# Altium footprint library PSU.PcbLib: 11 footprints
Each footprint in its own frame and in the unit in brackets; x right, y up, seen from the top. Pads: shape width x height; smd on the part's side, far side on the other; paste and mask are expansions set on the pad; w line width, h text height; cw(c..) or ccw(c..) is an arc to the next point about the centre after c.
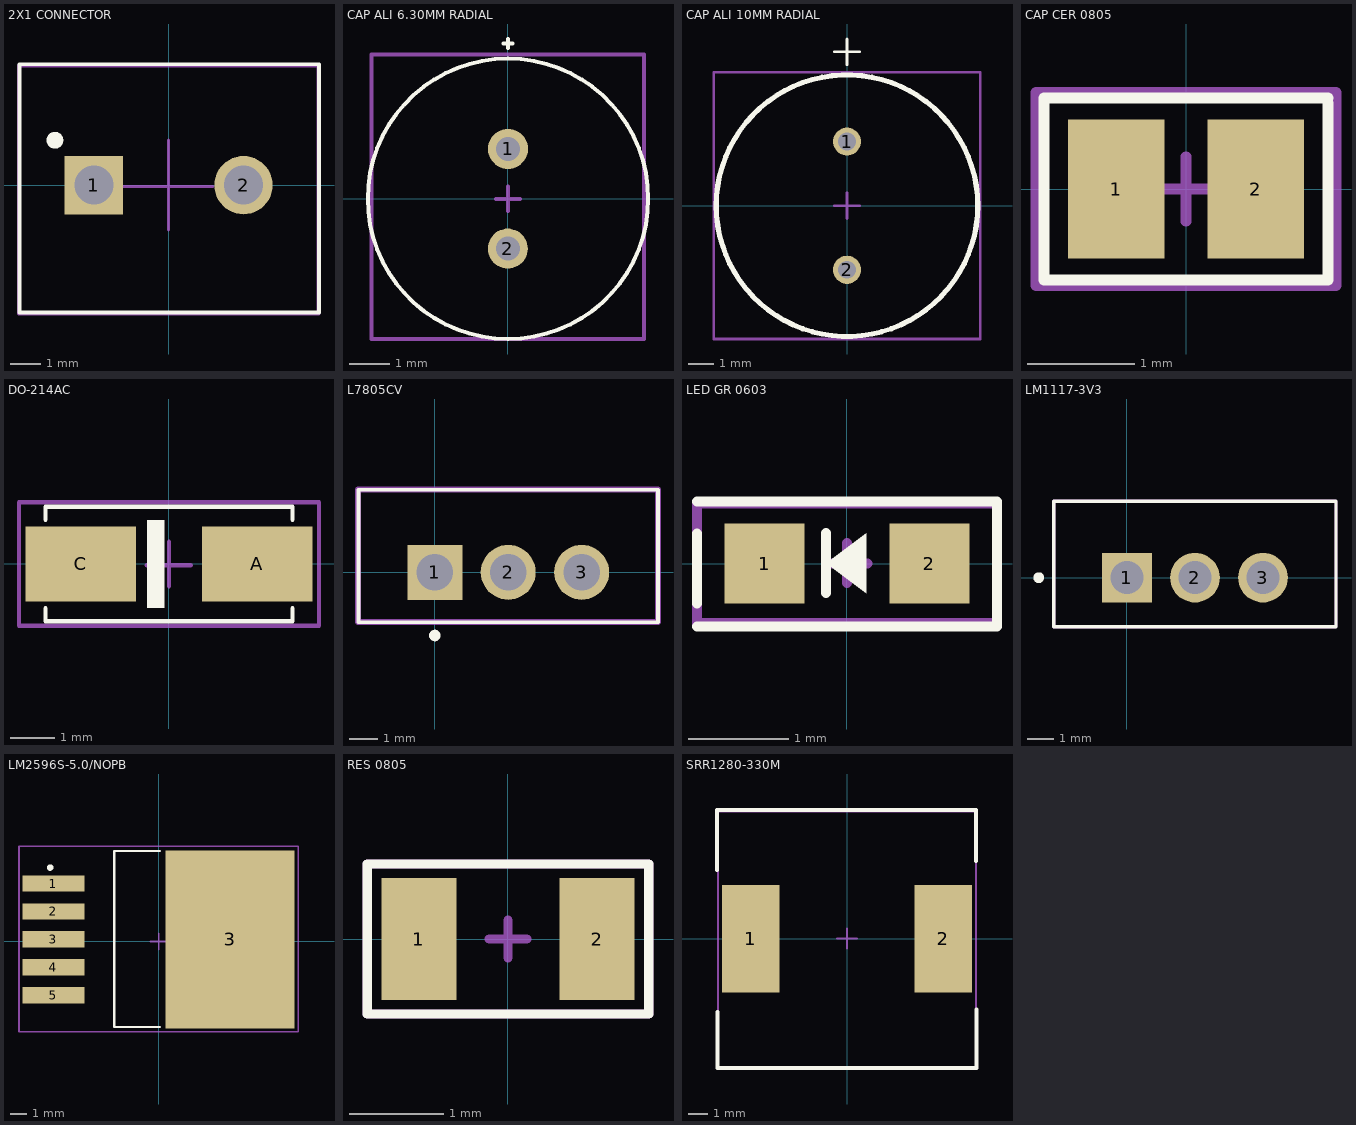
[diagram p0: the footprints below, top view; thin cyan lines are the x and y axes]

## 2X1 CONNECTOR [mm]
pads (2):
  rect 1.95x1.95 hole 1.3: 1(-2.5,0)
  round 1.95 hole 1.3: 2(2.5,0)
Top Overlay:
  circle w0.28: c-3.8,1.5 r0.14
  lines w0.127: -4.979,-4.261 5.021,-4.261 5.021,4.039 -4.979,4.039 -4.979,-4.261
Top Component Center:
  lines w0.1: -1.521,-0.039 1.479,-0.039 ; 0,-1.5 0,1.5
  lines w0.127: -5,-4.3 5,-4.3 5,4 -5,4 -5,-4.3
Top Designator:
  lines w0.127: -5,-4.3 5,-4.3 5,4 -5,4 -5,-4.3
  text ".Designator" at -4,-1 h0.9
3D body "1935161--3DModel-STEP-56544.STEP": height 11.91, standoff -2.99, extent -4.9,-5 5.5,4

## CAP ALI 6.30MM RADIAL [mm]
pads (2):
  round 1 hole 0.6 paste+0 mask+0.05: 1(0.002,1.244) 2(-0.002,-1.244)
Top Overlay:
  circle w0.1: c0.002,0 r3.5
  lines w0.1: -0.113,3.875 0.112,3.875 ; 0,3.762 0,3.988
Top Component Center:
  lines w0.1: -0.295,-0.011 0.305,-0.011 ; 0,-0.3 0,0.3 ; -3.4,-3.5 3.4,-3.5 3.4,3.6 -3.4,3.6 -3.4,-3.5
Top Designator:
  lines w0.1: -3.4,-3.5 -3.4,3.6 3.4,3.6 3.4,-3.5 -3.4,-3.5
  text "'.Designator'" at -3,-0.9 h1
3D body "ESH227M016AE3AA.step": height 12.52, standoff -19.99, extent -3.423,-3.406 3.377,3.394

## CAP ALI 10MM RADIAL [mm]
pads (2):
  round 1.1 hole 0.7 paste+0 mask+0.05: 1(0,2.5) 2(0,-2.5)
Top Overlay:
  circle w0.2: c0,0 r5.1
  lines w0.1: -0.5,6 0.5,6 ; 0,5.5 0,6.5
Top Component Center:
  lines w0.1: -5.2,5.1 -5.2,5.2 5.2,5.2 5.2,-5.2 -5.2,-5.2 -5.2,5.15 ; -0.5,0 0.5,0 ; 0,-0.5 0,0.5
Top Designator:
  lines w0.1: -5.2,5.1 -5.2,5.2 5.2,5.2 5.2,-5.2 -5.2,-5.2 -5.2,5.15
  text "'.Designator'" at -4.8,-1.5 h1.5
3D body: height 20, standoff 0, extent -5,-5 5,5
3D body: height 0, standoff -17, extent -0.3,2.2 0.298,2.799
3D body: height 0, standoff -14, extent -0.3,-2.8 0.298,-2.201

## CAP CER 0805 [mm]
pads (2):
  rect 0.9x1.3 smd mask+0.075: 1(-0.65,0) 2(0.65,0)
Top Overlay:
  lines w0.1: 1.325,0.8 1.325,-0.85 -1.325,-0.85 -1.325,0.85 -0.762,0.85 0.762,0.85 1.325,0.85
Top Component Center:
  lines w0.1: -0.3,-0.001 0.3,-0.001 ; 0,-0.3 0,0.3 ; 1.35,-0.9 0.65,-0.9 -0.75,-0.9 -1.4,-0.9 -1.4,0.9 1.4,0.9 1.4,-0.9
Top Designator:
  lines w0.1: -1.4,-0.9 -1.4,-0.665 -1.4,-0.411 -1.4,-0.284 -1.4,0.284 -1.4,0.9 1.4,0.9 1.4,-0.9 -1.4,-0.9
  text "'.Designator'" at -1.3,-0.6 h0.6
3D body "CAPC2012X145N EIA 0805.step": height 1.46, standoff 0.01, extent -1,-0.6 1,0.6

## DO-214AC [mm]
pads (2):
  rect 2.5x1.7 smd paste+0 mask+0.075: A(2,0) C(-2,0)
Top Overlay:
  rectangle: -0.5,-1 -0.1,1
  lines w0.1: -2.8,-1 -2.8,-1.3 2.8,-1.3 2.8,-1 ; -2.8,1 -2.8,1.3 2.8,1.3 2.8,1
Top Component Center:
  lines w0.1: -0.504,-0.027 0.496,-0.027 ; 0,-0.5 0,0.5 ; -3.4,-1.4 -3.4,1.4 3.4,1.4 3.4,-1.4 -3.4,-1.4
Top Designator:
  lines w0.1: -3.4,-1.4 -3.4,1.4 3.4,1.4 3.4,-1.4 -3.4,-1.4
  text "'.Designator'" at -3,-0.7 h0.8
3D body "DO2214AC.step": height 2.6, standoff 0.03, extent -2.75,-1.4 2.75,1.4

## L7805CV [mm]
pads (3):
  rect 1.91x1.91 hole 1.27: 1(0,0)
  round 1.91 hole 1.27: 2(2.55,0) 3(5.1,0)
Top Overlay:
  circle w0.2: c0,-2.195 r0.1
  lines w0.127: -2.65,-1.74 7.75,-1.74 7.75,2.86 -2.65,2.86 -2.65,-1.74
Top Component Center:
  lines w0.1: -0.5,0 0.5,0 ; 0,-0.5 0,0.5 ; -2.667,-1.753 7.747,-1.753 7.747,2.845 -2.667,2.845 -2.667,-1.753
Top Designator:
  lines w0.2: -2.667,-1.727 7.747,-1.727 7.747,2.87 -2.667,2.87 -2.667,-1.727
  text ".Designator" at -2.255,0.149 h1
3D body "L7805CV.STEP": height 20.35, standoff -9.99, extent -2.58,-1.85 7.58,2.5

## LED GR 0603 [mm]
pads (2):
  rect 0.8x0.8 smd mask+0.05: 1(-0.825,0) 2(0.825,0)
Top Overlay:
  region: 0.192,0.307 0.192,-0.293 -0.208,0.007
  lines w0.1: -1.5,-0.627 1.5,-0.627 1.5,0.622 -1.5,0.622 ; -1.5,-0.4 -1.5,0.3 ; -0.208,-0.293 -0.208,0.307
Top Component Center:
  lines w0.1: -0.197,0 0.203,0 ; 0,-0.193 0,0.207 ; -1.5,-0.593 -1.5,0.607 1.5,0.607 1.5,-0.593 -1.5,-0.593
Top Designator:
  lines w0.1: -1.5,-0.6 -1.5,0.6 1.5,0.6 1.5,-0.6 -1.5,-0.6
  text "'.Designator'" at -1.3,-0.5 h0.5
3D body "STP_150060xS75000 (rev1).stp": height 0.7, standoff 0, extent -0.9,-0.4 0.7,0.4

## LM1117-3V3 [mm]
pads (3):
  rect 1.86x1.86 hole 1.24: 1(0,0)
  round 1.86 hole 1.24: 2(2.54,0) 3(5.08,0)
Top Overlay:
  circle w0.2: c-3.3,0 r0.1
  lines w0.127: -2.73,-1.84 -2.73,2.86 7.81,2.86 7.81,-1.84 -2.73,-1.84
Top Component Center:
  lines w0.1: -0.5,0 0.5,0 0,0 ; 0,-0.5 0,0.5
  lines w0.127: -2.73,-1.84 -2.73,2.86 7.81,2.86 7.81,-1.84 -2.73,-1.84
Top Designator:
  lines w0.127: -2.73,-1.84 -2.73,2.86 7.81,2.86 7.81,-1.84 -2.73,-1.84
  text ".Designator" at -2,-0.5 h0.9
3D body "NOPB.STEP": height 23.25, standoff -7.99, extent -2.58,-1.695 7.58,2.5

## LM2596S-5.0/NOPB [mm]
pads (6):
  rect 3.79x0.99 smd: 1(-6.4,3.527) 2(-6.4,1.827) 3(-6.4,0.127) 4(-6.4,-1.573) 5(-6.4,-3.273)
  rect 7.88x10.84 smd paste-6: 3(4.35,0.127)
Top Overlay:
  circle w0.2: c-6.6,4.5 r0.1
  lines w0.127: 0.09,-5.2 -2.7,-5.2 -2.7,5.5 0.09,5.5
Top Component Center:
  lines w0.1: -0.5,0 0.5,0 ; 0,-0.5 0,0.5 ; -8.5,-5.5 -8.5,5.8 8.5,5.8 8.5,-5.5 -8.5,-5.5
Top Designator:
  lines w0.1: -8.5,-5.5 -8.5,5.8 8.5,5.8 8.5,-5.5 -8.5,-5.5
  text "'.Designator'" at -7.4,-1.7 h2
3D body "LM2596S-5.0NOPB.STEP": height 4.66, standoff -0.14, extent -7.175,-4.98 7.175,5.18

## RES 0805 [mm]
pads (2):
  rect 0.8x1.3 smd mask+0.05: 1(-0.95,0) 2(0.95,0)
Top Overlay:
  lines w0.1: -1.5,-0.8 1.5,-0.8 1.5,0.8 -1.5,0.8 -1.5,-0.8
Top Component Center:
  lines w0.1: -0.2,0 0.2,0 ; 0,-0.2 0,0.2 ; -1.5,-0.8 -1.5,0.8 1.5,0.8 1.5,-0.8 -1.5,-0.8
Top Designator:
  lines w0.1: -1.5,-0.8 1.5,-0.8 1.5,0.8 -1.5,0.8 -1.5,-0.8
  text "'.Designator'" at -1.4,-0.5 h0.6
3D body "res 0805.step": height 0.8, standoff 0, extent -1.4,-0.625 1.4,0.625

## SRR1280-330M [mil]
pads (2):
  rect 114x213 smd paste+0 mask+0: 1(-191,0) 2(191,0)
Top Overlay:
  lines w7.87: -257.74,135.83 -257.74,255.45 256.26,255.45 256.26,153.54 ; -257,-145.67 -257,-257 257,-257 257,-140.75
Top Component Center:
  lines w3.94: -19.68,0 19.68,0 ; 0,-19.68 0,19.68 ; -255.91,-255.91 255.91,-255.91 255.91,251.97 -255.91,251.97 -255.91,-255.91
Top Designator:
  lines w3.94: -255.91,-255.91 -255.91,251.97 255.91,251.97 255.91,-255.91 -255.91,-255.91
  text "'.Designator'" at -220.47,-39.37 h118.11
3D body "IND_BOURNS_SRR1280.step": height 315, standoff 0, extent -252.01,-252.09 252.01,252.09